# Altium footprint library WE-SHC.PcbLib: 139 footprints (part 4 of 10)
Each footprint in its own frame and in the unit in brackets; x right, y up, seen from the top. Pads: shape width x height; smd on the part's side, far side on the other; paste and mask are expansions set on the pad; w line width, h text height; cw(c..) or ccw(c..) is an arc to the next point about the centre after c.
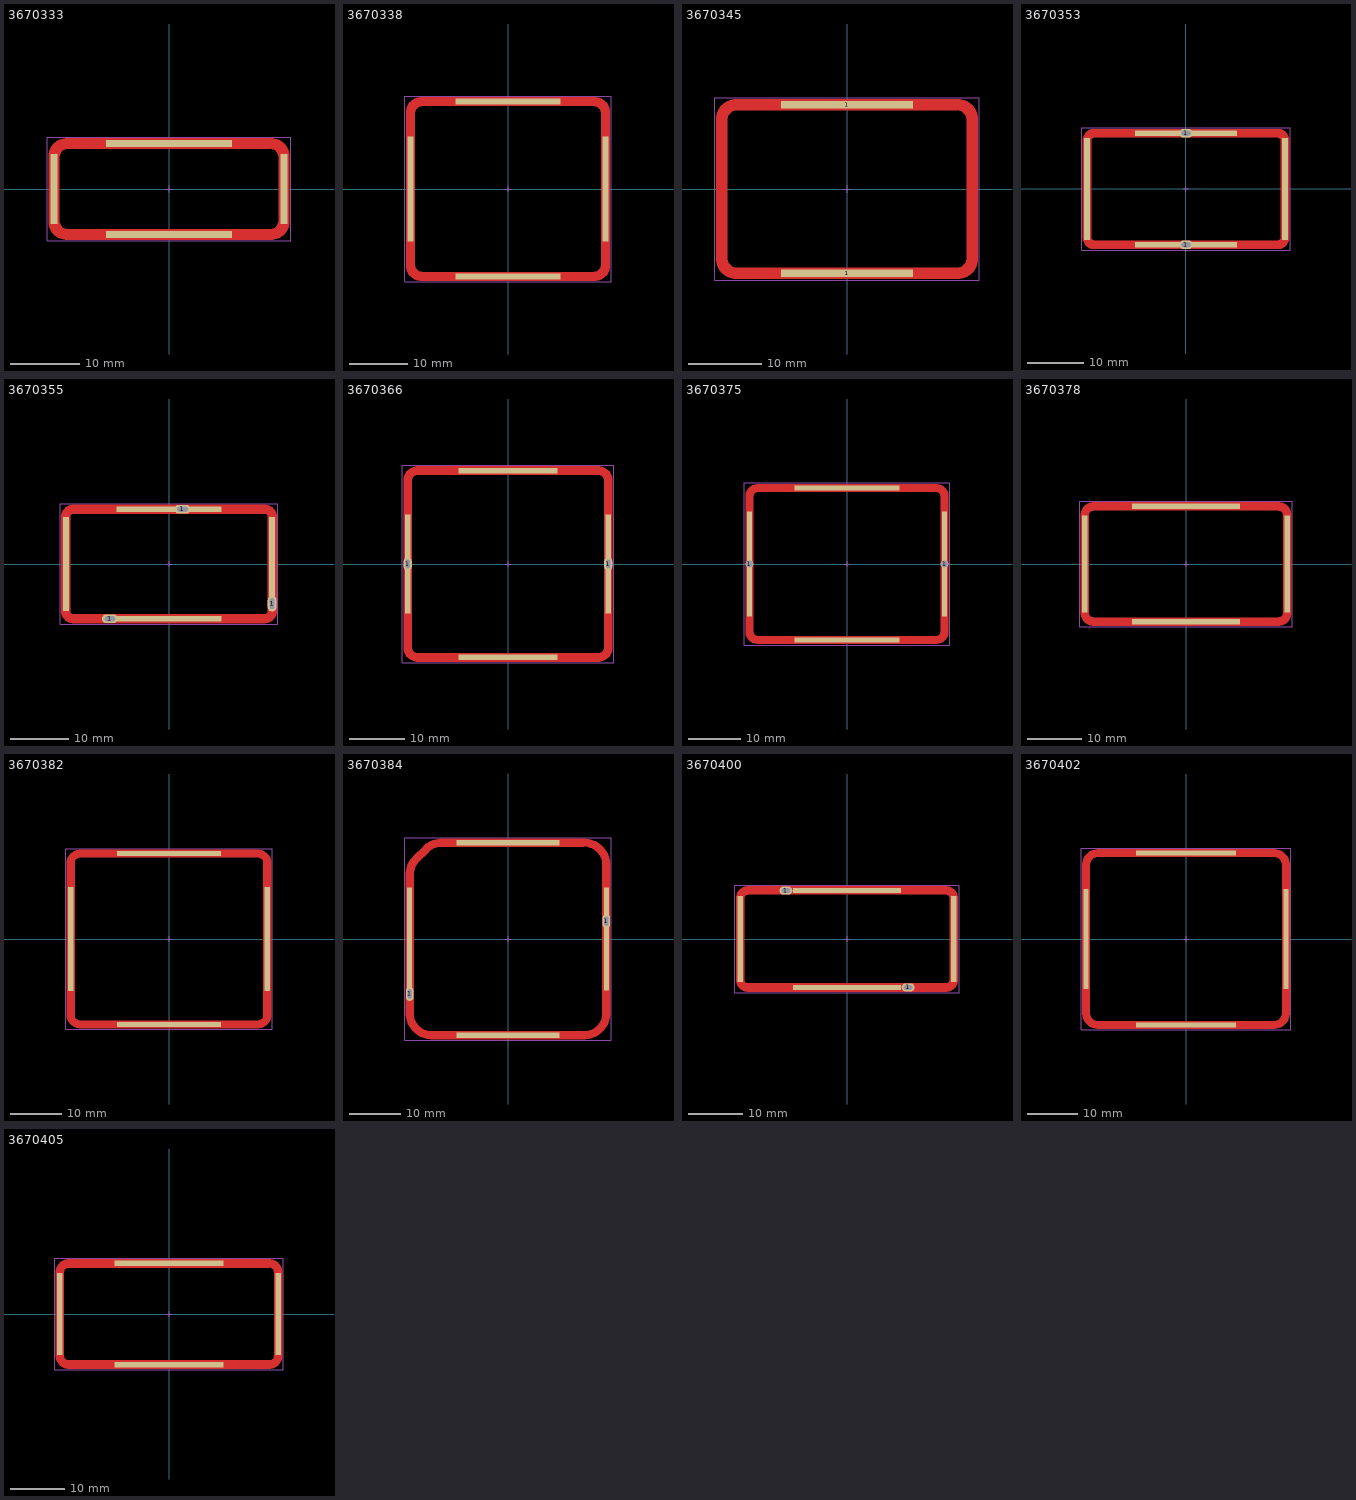
[diagram p3: the footprints below, top view; thin cyan lines are the x and y axes]

## 3670333 [mm] "Shielding Cabinet, SMT Frame Seamless, 33.3x13.3x4.4mm"
height 4.4
pads (4):
  rect 1x10 smd paste-2539.97 mask-2222: 1(-16.5,0) 1(16.5,0)
  rect 18x1 smd paste-2539.97 mask-2222: 1(0,-6.5) 1(0,6.5)
Top Layer:
  region: -17.25,-1 -17.25,4.65 -17.25,4.906 -17.15,5.408 -16.954,5.882 -16.67,6.307 -16.307,6.67 -15.882,6.954 -15.408,7.15 -14.906,7.25 -14.65,7.25 14.65,7.25 14.906,7.25 15.408,7.15 15.882,6.954 16.307,6.67 16.67,6.307 16.954,5.882 17.15,5.408 17.25,4.906 17.25,4.65 17.25,-1 15.75,-1 15.75,4.45 15.744,4.577 15.694,4.827 15.596,5.063 15.455,5.275 15.275,5.455 15.063,5.596 14.827,5.694 14.577,5.744 14.45,5.75 -14.45,5.75 -14.577,5.744 -14.827,5.694 -15.063,5.596 -15.275,5.455 -15.455,5.275 -15.596,5.063 -15.694,4.827 -15.744,4.577 -15.75,4.45 -15.75,-1
  region: -17.25,-0.25 -17.25,-4.65 -17.25,-4.906 -17.15,-5.408 -16.954,-5.882 -16.67,-6.307 -16.307,-6.67 -15.882,-6.954 -15.408,-7.15 -14.906,-7.25 -14.65,-7.25 14.65,-7.25 14.906,-7.25 15.408,-7.15 15.882,-6.954 16.307,-6.67 16.67,-6.307 16.954,-5.882 17.15,-5.408 17.25,-4.906 17.25,-4.65 17.25,-0.25 15.75,-0.25 15.75,-4.45 15.744,-4.577 15.694,-4.827 15.596,-5.063 15.455,-5.275 15.275,-5.455 15.063,-5.596 14.827,-5.694 14.577,-5.744 14.45,-5.75 -14.45,-5.75 -14.577,-5.744 -14.827,-5.694 -15.063,-5.596 -15.275,-5.455 -15.455,-5.275 -15.596,-5.063 -15.694,-4.827 -15.744,-4.577 -15.75,-4.45 -15.75,-0.25
Top Paste:
  region: -17.25,-0.25 -17.25,-4.65 -17.25,-4.906 -17.15,-5.408 -16.954,-5.882 -16.67,-6.307 -16.307,-6.67 -15.882,-6.954 -15.408,-7.15 -14.906,-7.25 -14.65,-7.25 14.65,-7.25 14.906,-7.25 15.408,-7.15 15.882,-6.954 16.307,-6.67 16.67,-6.307 16.954,-5.882 17.15,-5.408 17.25,-4.906 17.25,-4.65 17.25,-0.25 15.75,-0.25 15.75,-4.45 15.744,-4.577 15.694,-4.827 15.596,-5.063 15.455,-5.275 15.275,-5.455 15.063,-5.596 14.827,-5.694 14.577,-5.744 14.45,-5.75 -14.45,-5.75 -14.577,-5.744 -14.827,-5.694 -15.063,-5.596 -15.275,-5.455 -15.455,-5.275 -15.596,-5.063 -15.694,-4.827 -15.744,-4.577 -15.75,-4.45 -15.75,-0.25
  region: -17.25,0.25 -17.25,4.65 -17.25,4.906 -17.15,5.408 -16.954,5.882 -16.67,6.307 -16.307,6.67 -15.882,6.954 -15.408,7.15 -14.906,7.25 -14.65,7.25 14.65,7.25 14.906,7.25 15.408,7.15 15.882,6.954 16.307,6.67 16.67,6.307 16.954,5.882 17.15,5.408 17.25,4.906 17.25,4.65 17.25,0.25 15.75,0.25 15.75,4.45 15.744,4.577 15.694,4.827 15.596,5.063 15.455,5.275 15.275,5.455 15.063,5.596 14.827,5.694 14.577,5.744 14.45,5.75 -14.45,5.75 -14.577,5.744 -14.827,5.694 -15.063,5.596 -15.275,5.455 -15.455,5.275 -15.596,5.063 -15.694,4.827 -15.744,4.577 -15.75,4.45 -15.75,0.25
Assembly Notes:
  text "recommended tin paste thickness=0.5mm / customer to define the final stencil gap" at -6.1,-8.9 h0.4
Top Component Outline:
  lines w0.1: -16.65,-4.65 ccw(c-14.65,-4.65) -14.65,-6.65 14.65,-6.65 ccw(c14.65,-4.65) 16.65,-4.65 16.65,4.65 ccw(c14.65,4.65) 14.65,6.65 -14.65,6.65 ccw(c-14.65,4.65) -16.65,4.65 -16.65,-4.65
Top 3D Body:
  lines w0.1: -16.65,-4.65 ccw(c-14.65,-4.65) -14.65,-6.65 14.65,-6.65 ccw(c14.65,-4.65) 16.65,-4.65 16.65,4.65 ccw(c14.65,4.65) 14.65,6.65 -14.65,6.65 ccw(c-14.65,4.65) -16.65,4.65 -16.65,-4.65
Top Courtyard:
  lines w0.05: -17.45,-7.45 17.45,-7.45 17.45,7.45 -17.45,7.45 -17.45,-7.45
Top Component Center:
  lines w0.05: -0.5,0 0.5,0 ; 0,-0.5 0,0.5
Top Designator (Mech19):
  text ".Designator" at -7.498,-0.5 h1.5
3D body "3670333.stp": height 4.4, standoff 0, extent -16.65,-6.65 16.65,6.65

## 3670338 [mm] "Shielding Cabinet, SMT Frame Seamless, 33.8x30.3x3.3mm"
height 3.3
pads (4):
  rect 1x18 smd paste-2539.97 mask-2222: 1(-16.75,0) 1(16.75,0)
  rect 18x1 smd paste-2539.97 mask-2222: 1(0,-15) 1(0,15)
Top Layer:
  region: -17.5,-0.25 -17.5,-13.15 -17.5,-13.406 -17.4,-13.908 -17.204,-14.382 -16.92,-14.807 -16.557,-15.17 -16.132,-15.454 -15.658,-15.65 -15.156,-15.75 -14.9,-15.75 14.9,-15.75 15.156,-15.75 15.658,-15.65 16.132,-15.454 16.557,-15.17 16.92,-14.807 17.204,-14.382 17.4,-13.908 17.5,-13.406 17.5,-13.15 17.5,-0.25 16,-0.25 16,-12.95 15.994,-13.077 15.944,-13.327 15.846,-13.563 15.705,-13.775 15.525,-13.955 15.313,-14.096 15.077,-14.194 14.827,-14.244 14.7,-14.25 -14.7,-14.25 -14.827,-14.244 -15.077,-14.194 -15.313,-14.096 -15.525,-13.955 -15.705,-13.775 -15.846,-13.563 -15.944,-13.327 -15.994,-13.077 -16,-12.95 -16,-0.25
  region: -17.5,-1 -17.5,13.15 -17.5,13.406 -17.4,13.908 -17.204,14.382 -16.92,14.807 -16.557,15.17 -16.132,15.454 -15.658,15.65 -15.156,15.75 -14.9,15.75 14.9,15.75 15.156,15.75 15.658,15.65 16.132,15.454 16.557,15.17 16.92,14.807 17.204,14.382 17.4,13.908 17.5,13.406 17.5,13.15 17.5,-1 16,-1 16,12.95 15.994,13.077 15.944,13.327 15.846,13.563 15.705,13.775 15.525,13.955 15.313,14.096 15.077,14.194 14.827,14.244 14.7,14.25 -14.7,14.25 -14.827,14.244 -15.077,14.194 -15.313,14.096 -15.525,13.955 -15.705,13.775 -15.846,13.563 -15.944,13.327 -15.994,13.077 -16,12.95 -16,-1
Top Paste:
  region: -17.5,0.25 -17.5,13.15 -17.5,13.406 -17.4,13.908 -17.204,14.382 -16.92,14.807 -16.557,15.17 -16.132,15.454 -15.658,15.65 -15.156,15.75 -14.9,15.75 14.9,15.75 15.156,15.75 15.658,15.65 16.132,15.454 16.557,15.17 16.92,14.807 17.204,14.382 17.4,13.908 17.5,13.406 17.5,13.15 17.5,0.25 16,0.25 16,12.95 15.994,13.077 15.944,13.327 15.846,13.563 15.705,13.775 15.525,13.955 15.313,14.096 15.077,14.194 14.827,14.244 14.7,14.25 -14.7,14.25 -14.827,14.244 -15.077,14.194 -15.313,14.096 -15.525,13.955 -15.705,13.775 -15.846,13.563 -15.944,13.327 -15.994,13.077 -16,12.95 -16,0.25
  region: -17.5,-0.25 -17.5,-13.15 -17.5,-13.406 -17.4,-13.908 -17.204,-14.382 -16.92,-14.807 -16.557,-15.17 -16.132,-15.454 -15.658,-15.65 -15.156,-15.75 -14.9,-15.75 14.9,-15.75 15.156,-15.75 15.658,-15.65 16.132,-15.454 16.557,-15.17 16.92,-14.807 17.204,-14.382 17.4,-13.908 17.5,-13.406 17.5,-13.15 17.5,-0.25 16,-0.25 16,-12.95 15.994,-13.077 15.944,-13.327 15.846,-13.563 15.705,-13.775 15.525,-13.955 15.313,-14.096 15.077,-14.194 14.827,-14.244 14.7,-14.25 -14.7,-14.25 -14.827,-14.244 -15.077,-14.194 -15.313,-14.096 -15.525,-13.955 -15.705,-13.775 -15.846,-13.563 -15.944,-13.327 -15.994,-13.077 -16,-12.95 -16,-0.25
Assembly Notes:
  text "recommended tin paste thickness=0.5mm / customer to define the final stencil gap" at -5.55,-17.45 h0.4
Top Component Outline:
  lines w0.1: -16.9,-13.15 ccw(c-14.9,-13.15) -14.9,-15.15 14.9,-15.15 ccw(c14.9,-13.15) 16.9,-13.15 16.9,13.15 ccw(c14.9,13.15) 14.9,15.15 -14.9,15.15 ccw(c-14.9,13.15) -16.9,13.15 -16.9,-13.15
Top 3D Body:
  lines w0.1: -16.9,-13.15 ccw(c-14.9,-13.15) -14.9,-15.15 14.9,-15.15 ccw(c14.9,-13.15) 16.9,-13.15 16.9,13.15 ccw(c14.9,13.15) 14.9,15.15 -14.9,15.15 ccw(c-14.9,13.15) -16.9,13.15 -16.9,-13.15
Top Courtyard:
  lines w0.05: -17.7,-15.95 17.7,-15.95 17.7,15.95 -17.7,15.95 -17.7,-15.95
Top Component Center:
  lines w0.05: -0.5,0 0.5,0 ; 0,-0.5 0,0.5
Top Designator (Mech19):
  text ".Designator" at -7.498,-0.5 h1.5
3D body "3670338.stp": height 3.3, standoff 0, extent -16.9,-15.15 16.9,15.15

## 3670345 [mm] "Shielding Cabinet, SMT Frame Seamless, 34.5x23.3x3.5mm"
height 3.5
pads (2):
  rect 18x1 smd paste-2539.97 mask-2222: 1(0,-11.5) 1(0,11.5)
Top Layer:
  region: -17.85,-0.25 -17.85,-9.65 -17.85,-9.906 -17.75,-10.408 -17.554,-10.882 -17.27,-11.307 -16.907,-11.67 -16.482,-11.954 -16.008,-12.15 -15.506,-12.25 -15.25,-12.25 15.25,-12.25 15.506,-12.25 16.008,-12.15 16.482,-11.954 16.907,-11.67 17.27,-11.307 17.554,-10.882 17.75,-10.408 17.85,-9.906 17.85,-9.65 17.85,-0.25 16.35,-0.25 16.35,-9.45 16.344,-9.577 16.294,-9.827 16.196,-10.063 16.055,-10.275 15.875,-10.455 15.663,-10.596 15.427,-10.694 15.177,-10.744 15.05,-10.75 -15.05,-10.75 -15.177,-10.744 -15.427,-10.694 -15.663,-10.596 -15.875,-10.455 -16.055,-10.275 -16.196,-10.063 -16.294,-9.827 -16.344,-9.577 -16.35,-9.45 -16.35,-0.25
  region: -17.85,-1 -17.85,9.65 -17.85,9.906 -17.75,10.408 -17.554,10.882 -17.27,11.307 -16.907,11.67 -16.482,11.954 -16.008,12.15 -15.506,12.25 -15.25,12.25 15.25,12.25 15.506,12.25 16.008,12.15 16.482,11.954 16.907,11.67 17.27,11.307 17.554,10.882 17.75,10.408 17.85,9.906 17.85,9.65 17.85,-1 16.35,-1 16.35,9.45 16.344,9.577 16.294,9.827 16.196,10.063 16.055,10.275 15.875,10.455 15.663,10.596 15.427,10.694 15.177,10.744 15.05,10.75 -15.05,10.75 -15.177,10.744 -15.427,10.694 -15.663,10.596 -15.875,10.455 -16.055,10.275 -16.196,10.063 -16.294,9.827 -16.344,9.577 -16.35,9.45 -16.35,-1
Top Paste:
  region: -17.85,0.25 -17.85,9.65 -17.85,9.906 -17.75,10.408 -17.554,10.882 -17.27,11.307 -16.907,11.67 -16.482,11.954 -16.008,12.15 -15.506,12.25 -15.25,12.25 15.25,12.25 15.506,12.25 16.008,12.15 16.482,11.954 16.907,11.67 17.27,11.307 17.554,10.882 17.75,10.408 17.85,9.906 17.85,9.65 17.85,0.25 16.35,0.25 16.35,9.45 16.344,9.577 16.294,9.827 16.196,10.063 16.055,10.275 15.875,10.455 15.663,10.596 15.427,10.694 15.177,10.744 15.05,10.75 -15.05,10.75 -15.177,10.744 -15.427,10.694 -15.663,10.596 -15.875,10.455 -16.055,10.275 -16.196,10.063 -16.294,9.827 -16.344,9.577 -16.35,9.45 -16.35,0.25
  region: -17.85,-0.25 -17.85,-9.65 -17.85,-9.906 -17.75,-10.408 -17.554,-10.882 -17.27,-11.307 -16.907,-11.67 -16.482,-11.954 -16.008,-12.15 -15.506,-12.25 -15.25,-12.25 15.25,-12.25 15.506,-12.25 16.008,-12.15 16.482,-11.954 16.907,-11.67 17.27,-11.307 17.554,-10.882 17.75,-10.408 17.85,-9.906 17.85,-9.65 17.85,-0.25 16.35,-0.25 16.35,-9.45 16.344,-9.577 16.294,-9.827 16.196,-10.063 16.055,-10.275 15.875,-10.455 15.663,-10.596 15.427,-10.694 15.177,-10.744 15.05,-10.75 -15.05,-10.75 -15.177,-10.744 -15.427,-10.694 -15.663,-10.596 -15.875,-10.455 -16.055,-10.275 -16.196,-10.063 -16.294,-9.827 -16.344,-9.577 -16.35,-9.45 -16.35,-0.25
Assembly Notes:
  text "recommended tin paste thickness=0.5mm / customer to define the final stencil gap" at -5.5,-13.85 h0.4
Top Component Outline:
  lines w0.1: -17.25,-9.65 ccw(c-15.25,-9.65) -15.25,-11.65 15.25,-11.65 ccw(c15.25,-9.65) 17.25,-9.65 17.25,9.65 ccw(c15.25,9.65) 15.25,11.65 -15.25,11.65 ccw(c-15.25,9.65) -17.25,9.65 -17.25,-9.65
Top 3D Body:
  lines w0.1: -17.25,-9.65 ccw(c-15.25,-9.65) -15.25,-11.65 15.25,-11.65 ccw(c15.25,-9.65) 17.25,-9.65 17.25,9.65 ccw(c15.25,9.65) 15.25,11.65 -15.25,11.65 ccw(c-15.25,9.65) -17.25,9.65 -17.25,-9.65
Top Courtyard:
  lines w0.05: -18.05,-12.45 18.05,-12.45 18.05,12.45 -18.05,12.45 -18.05,-12.45
Top Component Center:
  lines w0.05: -0.5,0 0.5,0 ; 0,-0.5 0,0.5
Top Designator (Mech19):
  text ".Designator" at -7.498,-0.5 h1.5
3D body "3670345.stp": height 3.5, standoff 0, extent -17.25,-11.65 17.25,11.65

## 3670353 [mm] "Shielding Cabinet, SMT Frame Seamless, 35.3x20x6.4mm"
height 6.4
pads (6):
  rect 1x18 smd paste-2539.97 mask-2222: 1(-17.5,0) 1(17.5,0)
  rect 18x1 smd paste-2539.97 mask-2222: 1(0,-9.85) 1(0,9.85)
  oval 2.4x1.5 hole 0.8 slot 1.6 at 0 deg: 1(0,-9.85) 1(0,9.85)
Top Layer:
  region: -18.25,-0.25 -18.25,-8.55 -18.25,-8.752 -18.171,-9.148 -18.017,-9.521 -17.792,-9.857 -17.507,-10.142 -17.171,-10.367 -16.798,-10.521 -16.402,-10.6 -16.2,-10.6 16.2,-10.6 16.402,-10.6 16.798,-10.521 17.171,-10.367 17.507,-10.142 17.792,-9.857 18.017,-9.521 18.171,-9.148 18.25,-8.752 18.25,-8.55 18.25,-0.25 16.75,-0.25 16.75,-8.55 16.739,-8.657 16.657,-8.856 16.506,-9.007 16.307,-9.089 16.2,-9.1 -16.2,-9.1 -16.307,-9.089 -16.506,-9.007 -16.657,-8.856 -16.739,-8.657 -16.75,-8.55 -16.75,-0.25
  region: -18.25,-1 -18.25,8.55 -18.25,8.752 -18.171,9.148 -18.017,9.521 -17.792,9.857 -17.507,10.142 -17.171,10.367 -16.798,10.521 -16.402,10.6 -16.2,10.6 16.2,10.6 16.402,10.6 16.798,10.521 17.171,10.367 17.507,10.142 17.792,9.857 18.017,9.521 18.171,9.148 18.25,8.752 18.25,8.55 18.25,-1 16.75,-1 16.75,8.55 16.739,8.657 16.657,8.856 16.506,9.007 16.307,9.089 16.2,9.1 -16.2,9.1 -16.307,9.089 -16.506,9.007 -16.657,8.856 -16.739,8.657 -16.75,8.55 -16.75,-1
Top Paste:
  region: -18.25,0.25 -18.25,8.55 -18.25,8.752 -18.171,9.148 -18.017,9.521 -17.792,9.857 -17.507,10.142 -17.171,10.367 -16.798,10.521 -16.402,10.6 -16.2,10.6 16.2,10.6 16.402,10.6 16.798,10.521 17.171,10.367 17.507,10.142 17.792,9.857 18.017,9.521 18.171,9.148 18.25,8.752 18.25,8.55 18.25,0.25 16.75,0.25 16.75,8.55 16.739,8.657 16.657,8.856 16.506,9.007 16.307,9.089 16.2,9.1 -16.2,9.1 -16.307,9.089 -16.506,9.007 -16.657,8.856 -16.739,8.657 -16.75,8.55 -16.75,0.25
  region: -18.25,-0.25 -18.25,-8.55 -18.25,-8.752 -18.171,-9.148 -18.017,-9.521 -17.792,-9.857 -17.507,-10.142 -17.171,-10.367 -16.798,-10.521 -16.402,-10.6 -16.2,-10.6 16.2,-10.6 16.402,-10.6 16.798,-10.521 17.171,-10.367 17.507,-10.142 17.792,-9.857 18.017,-9.521 18.171,-9.148 18.25,-8.752 18.25,-8.55 18.25,-0.25 16.75,-0.25 16.75,-8.55 16.739,-8.657 16.657,-8.856 16.506,-9.007 16.307,-9.089 16.2,-9.1 -16.2,-9.1 -16.307,-9.089 -16.506,-9.007 -16.657,-8.856 -16.739,-8.657 -16.75,-8.55 -16.75,-0.25
Assembly Notes:
  text "recommended tin paste thickness=0.5mm / customer to define the final stencil gap" at -5.4,-12.25 h0.4
Top Component Outline:
  lines w0.1: -17.65,-8.5 ccw(c-16.15,-8.5) -16.15,-10 16.15,-10 ccw(c16.15,-8.5) 17.65,-8.5 17.65,8.5 ccw(c16.15,8.5) 16.15,10 -16.15,10 ccw(c-16.15,8.5) -17.65,8.5 -17.65,-8.5
Top 3D Body:
  lines w0.1: -17.65,-8.5 ccw(c-16.15,-8.5) -16.15,-10 16.15,-10 ccw(c16.15,-8.5) 17.65,-8.5 17.65,8.5 ccw(c16.15,8.5) 16.15,10 -16.15,10 ccw(c-16.15,8.5) -17.65,8.5 -17.65,-8.5
Top Courtyard:
  lines w0.05: -18.45,-10.8 18.45,-10.8 18.45,10.8 -18.45,10.8 -18.45,-10.8
Top Component Center:
  lines w0.05: -0.5,0 0.5,0 ; 0,-0.5 0,0.5
Top Designator (Mech19):
  text ".Designator" at -7.498,-0.5 h1.5
3D body "3670353.stp": height 6.4, standoff -0.6, extent -17.65,-10 17.65,10

## 3670355 [mm] "Shielding Cabinet, SMT Frame Seamless, 35.5x19x5.5mm"
height 5.5
pads (7):
  rect 1x16 smd paste-2539.97 mask-2222: 1(-17.6,0) 1(17.6,0)
  oval 2.7x1.5 hole 0.8 slot 1.8 at 0 deg: 1(-10.1,-9.35) 1(2.3,9.35)
  rect 18x1 smd paste-2539.97 mask-2222: 1(0,-9.35) 1(0,9.35)
  oval 1.5x2.7 hole 0.8 slot 1.8 at 90 deg: 1(17.6,-6.75)
Top Layer:
  region: -18.35,-1 -18.35,8.1 -18.35,8.297 -18.273,8.683 -18.122,9.047 -17.903,9.375 -17.625,9.654 -17.297,9.872 -16.933,10.023 -16.547,10.1 -16.35,10.1 16.35,10.1 16.547,10.1 16.933,10.023 17.297,9.872 17.625,9.654 17.903,9.375 18.122,9.047 18.273,8.683 18.35,8.297 18.35,8.1 18.35,-1 16.85,-1 16.85,8.1 16.84,8.198 16.766,8.378 16.628,8.516 16.448,8.59 16.35,8.6 -16.35,8.6 -16.448,8.59 -16.628,8.516 -16.766,8.378 -16.84,8.198 -16.85,8.1 -16.85,-1
  region: -18.35,-0.25 -18.35,-8.1 -18.35,-8.297 -18.273,-8.683 -18.122,-9.047 -17.903,-9.375 -17.625,-9.654 -17.297,-9.872 -16.933,-10.023 -16.547,-10.1 -16.35,-10.1 16.35,-10.1 16.547,-10.1 16.933,-10.023 17.297,-9.872 17.625,-9.654 17.903,-9.375 18.122,-9.047 18.273,-8.683 18.35,-8.297 18.35,-8.1 18.35,-0.25 16.85,-0.25 16.85,-8.1 16.84,-8.198 16.766,-8.378 16.628,-8.516 16.448,-8.59 16.35,-8.6 -16.35,-8.6 -16.448,-8.59 -16.628,-8.516 -16.766,-8.378 -16.84,-8.198 -16.85,-8.1 -16.85,-0.25
Top Paste:
  region: -18.35,-0.25 -18.35,-8.1 -18.35,-8.297 -18.273,-8.683 -18.122,-9.047 -17.903,-9.375 -17.625,-9.654 -17.297,-9.872 -16.933,-10.023 -16.547,-10.1 -16.35,-10.1 16.35,-10.1 16.547,-10.1 16.933,-10.023 17.297,-9.872 17.625,-9.654 17.903,-9.375 18.122,-9.047 18.273,-8.683 18.35,-8.297 18.35,-8.1 18.35,-0.25 16.85,-0.25 16.85,-8.1 16.84,-8.198 16.766,-8.378 16.628,-8.516 16.448,-8.59 16.35,-8.6 -16.35,-8.6 -16.448,-8.59 -16.628,-8.516 -16.766,-8.378 -16.84,-8.198 -16.85,-8.1 -16.85,-0.25
  region: -18.35,0.25 -18.35,8.1 -18.35,8.297 -18.273,8.683 -18.122,9.047 -17.903,9.375 -17.625,9.654 -17.297,9.872 -16.933,10.023 -16.547,10.1 -16.35,10.1 16.35,10.1 16.547,10.1 16.933,10.023 17.297,9.872 17.625,9.654 17.903,9.375 18.122,9.047 18.273,8.683 18.35,8.297 18.35,8.1 18.35,0.25 16.85,0.25 16.85,8.1 16.84,8.198 16.766,8.378 16.628,8.516 16.448,8.59 16.35,8.6 -16.35,8.6 -16.448,8.59 -16.628,8.516 -16.766,8.378 -16.84,8.198 -16.85,8.1 -16.85,0.25
Assembly Notes:
  text "recommended tin paste thickness=0.5mm / customer to define the final stencil gap" at -5.6,-11.65 h0.4
Top Component Outline:
  lines w0.1: -17.75,-8.15 ccw(c-16.4,-8.15) -16.4,-9.5 16.4,-9.5 ccw(c16.4,-8.15) 17.75,-8.15 17.75,8.15 ccw(c16.4,8.15) 16.4,9.5 -16.4,9.5 ccw(c-16.4,8.15) -17.75,8.15 -17.75,-8.15
Top 3D Body:
  lines w0.1: -17.75,-8.15 ccw(c-16.4,-8.15) -16.4,-9.5 16.4,-9.5 ccw(c16.4,-8.15) 17.75,-8.15 17.75,8.15 ccw(c16.4,8.15) 16.4,9.5 -16.4,9.5 ccw(c-16.4,8.15) -17.75,8.15 -17.75,-8.15
Top Courtyard:
  lines w0.05: -18.55,-10.3 18.55,-10.3 18.55,10.3 -18.55,10.3 -18.55,-10.3
Top Component Center:
  lines w0.05: -0.5,0 0.5,0 ; 0,-0.5 0,0.5
Top Designator (Mech19):
  text ".Designator" at -7.498,-0.5 h1.5
3D body "3670355.stp": height 5.5, standoff -1, extent -17.75,-9.5 17.75,9.5

## 3670366 [mm] "Shielding Cabinet, SMT Frame Seamless, 36.6x34.1x3.3mm"
height 3.3
pads (6):
  rect 1x18 smd paste-2539.97 mask-2222: 1(-18.15,0) 1(18.15,0)
  oval 1.5x2.4 hole 0.8 slot 1.6 at 90 deg: 1(-18.15,0) 1(18.15,0)
  rect 18x1 smd paste-2539.97 mask-2222: 1(0,-16.9) 1(0,16.9)
Top Layer:
  region: 18.9,-15.15 18.9,15.15 18.9,15.396 18.804,15.879 18.615,16.334 18.342,16.744 17.994,17.092 17.584,17.365 17.129,17.554 16.646,17.65 16.4,17.65 0.25,17.65 0.25,16.15 16.4,16.15 16.498,16.145 16.69,16.107 16.871,16.032 17.034,15.923 17.173,15.784 17.282,15.621 17.357,15.44 17.395,15.248 17.4,15.15 17.4,-15.15 17.395,-15.248 17.357,-15.44 17.282,-15.621 17.173,-15.784 17.034,-15.923 16.871,-16.032 16.69,-16.107 16.498,-16.145 16.4,-16.15 0.25,-16.15 0.25,-17.65 16.4,-17.65 16.646,-17.65 17.129,-17.554 17.584,-17.365 17.994,-17.092 18.342,-16.744 18.615,-16.334 18.804,-15.879 18.9,-15.396
  region: -18.9,-15.15 -18.9,15.15 -18.9,15.396 -18.804,15.879 -18.615,16.334 -18.342,16.744 -17.994,17.092 -17.584,17.365 -17.129,17.554 -16.646,17.65 -16.4,17.65 1,17.65 1,16.15 -16.4,16.15 -16.498,16.145 -16.69,16.107 -16.871,16.032 -17.034,15.923 -17.173,15.784 -17.282,15.621 -17.357,15.44 -17.395,15.248 -17.4,15.15 -17.4,-15.15 -17.395,-15.248 -17.357,-15.44 -17.282,-15.621 -17.173,-15.784 -17.034,-15.923 -16.871,-16.032 -16.69,-16.107 -16.498,-16.145 -16.4,-16.15 1,-16.15 1,-17.65 -16.4,-17.65 -16.646,-17.65 -17.129,-17.554 -17.584,-17.365 -17.994,-17.092 -18.342,-16.744 -18.615,-16.334 -18.804,-15.879 -18.9,-15.396
Top Paste:
  region: -18.9,-15.15 -18.9,15.15 -18.9,15.396 -18.804,15.879 -18.615,16.334 -18.342,16.744 -17.994,17.092 -17.584,17.365 -17.129,17.554 -16.646,17.65 -16.4,17.65 -0.25,17.65 -0.25,16.15 -16.4,16.15 -16.498,16.145 -16.69,16.107 -16.871,16.032 -17.034,15.923 -17.173,15.784 -17.282,15.621 -17.357,15.44 -17.395,15.248 -17.4,15.15 -17.4,-15.15 -17.395,-15.248 -17.357,-15.44 -17.282,-15.621 -17.173,-15.784 -17.034,-15.923 -16.871,-16.032 -16.69,-16.107 -16.498,-16.145 -16.4,-16.15 -0.25,-16.15 -0.25,-17.65 -16.4,-17.65 -16.646,-17.65 -17.129,-17.554 -17.584,-17.365 -17.994,-17.092 -18.342,-16.744 -18.615,-16.334 -18.804,-15.879 -18.9,-15.396
  region: 18.9,-15.15 18.9,15.15 18.9,15.396 18.804,15.879 18.615,16.334 18.342,16.744 17.994,17.092 17.584,17.365 17.129,17.554 16.646,17.65 16.4,17.65 0.25,17.65 0.25,16.15 16.4,16.15 16.498,16.145 16.69,16.107 16.871,16.032 17.034,15.923 17.173,15.784 17.282,15.621 17.357,15.44 17.395,15.248 17.4,15.15 17.4,-15.15 17.395,-15.248 17.357,-15.44 17.282,-15.621 17.173,-15.784 17.034,-15.923 16.871,-16.032 16.69,-16.107 16.498,-16.145 16.4,-16.15 0.25,-16.15 0.25,-17.65 16.4,-17.65 16.646,-17.65 17.129,-17.554 17.584,-17.365 17.994,-17.092 18.342,-16.744 18.615,-16.334 18.804,-15.879 18.9,-15.396
Assembly Notes:
  text "recommended tin paste thickness=0.5mm / customer to define the final stencil gap" at -6.1,-19.3 h0.4
Top Component Outline:
  lines w0.1: -18.3,-15.05 ccw(c-16.3,-15.05) -16.3,-17.05 16.3,-17.05 ccw(c16.3,-15.05) 18.3,-15.05 18.3,15.05 ccw(c16.3,15.05) 16.3,17.05 -16.3,17.05 ccw(c-16.3,15.05) -18.3,15.05 -18.3,-15.05
Top 3D Body:
  lines w0.1: -18.3,-15.05 ccw(c-16.3,-15.05) -16.3,-17.05 16.3,-17.05 ccw(c16.3,-15.05) 18.3,-15.05 18.3,15.05 ccw(c16.3,15.05) 16.3,17.05 -16.3,17.05 ccw(c-16.3,15.05) -18.3,15.05 -18.3,-15.05
Top Courtyard:
  lines w0.05: -19.1,-17.85 -19.1,17.85 19.1,17.85 19.1,-17.85 -19.1,-17.85
Top Component Center:
  lines w0.05: -0.5,0 0.5,0 ; 0,-0.5 0,0.5
Top Designator (Mech19):
  text ".Designator" at -7.498,-0.5 h1.5
3D body "3670366.stp": height 3.3, standoff -0.8, extent -18.3,-17.05 18.3,17.05

## 3670375 [mm] "Shielding Cabinet, SMT Frame Seamless, 37.5x29.3x6.5mm"
height 6.5
pads (6):
  rect 1x20 smd paste-2539.97 mask-2222: 1(-18.6,0) 1(18.6,0)
  round 1.5 hole 1.3: 1(-18.6,0) 1(18.6,0)
  rect 20x1 smd paste-2539.97 mask-2222: 1(0,-14.5) 1(0,14.5)
Top Layer:
  region: 19.35,-12.85 19.35,12.85 19.35,13.086 19.258,13.55 19.077,13.987 18.814,14.38 18.48,14.714 18.087,14.977 17.65,15.158 17.186,15.25 16.95,15.25 0.25,15.25 0.25,13.75 16.95,13.75 17.038,13.746 17.211,13.711 17.374,13.644 17.521,13.546 17.646,13.421 17.744,13.274 17.811,13.111 17.846,12.938 17.85,12.85 17.85,-12.85 17.846,-12.938 17.811,-13.111 17.744,-13.274 17.646,-13.421 17.521,-13.546 17.374,-13.644 17.211,-13.711 17.038,-13.746 16.95,-13.75 0.25,-13.75 0.25,-15.25 16.95,-15.25 17.186,-15.25 17.65,-15.158 18.087,-14.977 18.48,-14.714 18.814,-14.38 19.077,-13.987 19.258,-13.55 19.35,-13.086
  region: -19.35,-12.85 -19.35,12.85 -19.35,13.086 -19.258,13.55 -19.077,13.987 -18.814,14.38 -18.48,14.714 -18.087,14.977 -17.65,15.158 -17.186,15.25 -16.95,15.25 1,15.25 1,13.75 -16.95,13.75 -17.038,13.746 -17.211,13.711 -17.374,13.644 -17.521,13.546 -17.646,13.421 -17.744,13.274 -17.811,13.111 -17.846,12.938 -17.85,12.85 -17.85,-12.85 -17.846,-12.938 -17.811,-13.111 -17.744,-13.274 -17.646,-13.421 -17.521,-13.546 -17.374,-13.644 -17.211,-13.711 -17.038,-13.746 -16.95,-13.75 1,-13.75 1,-15.25 -16.95,-15.25 -17.186,-15.25 -17.65,-15.158 -18.087,-14.977 -18.48,-14.714 -18.814,-14.38 -19.077,-13.987 -19.258,-13.55 -19.35,-13.086
Top Paste:
  region: -19.35,-12.85 -19.35,12.85 -19.35,13.086 -19.258,13.55 -19.077,13.987 -18.814,14.38 -18.48,14.714 -18.087,14.977 -17.65,15.158 -17.186,15.25 -16.95,15.25 -0.25,15.25 -0.25,13.75 -16.95,13.75 -17.038,13.746 -17.211,13.711 -17.374,13.644 -17.521,13.546 -17.646,13.421 -17.744,13.274 -17.811,13.111 -17.846,12.938 -17.85,12.85 -17.85,-12.85 -17.846,-12.938 -17.811,-13.111 -17.744,-13.274 -17.646,-13.421 -17.521,-13.546 -17.374,-13.644 -17.211,-13.711 -17.038,-13.746 -16.95,-13.75 -0.25,-13.75 -0.25,-15.25 -16.95,-15.25 -17.186,-15.25 -17.65,-15.158 -18.087,-14.977 -18.48,-14.714 -18.814,-14.38 -19.077,-13.987 -19.258,-13.55 -19.35,-13.086
  region: 19.35,-12.85 19.35,12.85 19.35,13.086 19.258,13.55 19.077,13.987 18.814,14.38 18.48,14.714 18.087,14.977 17.65,15.158 17.186,15.25 16.95,15.25 0.25,15.25 0.25,13.75 16.95,13.75 17.038,13.746 17.211,13.711 17.374,13.644 17.521,13.546 17.646,13.421 17.744,13.274 17.811,13.111 17.846,12.938 17.85,12.85 17.85,-12.85 17.846,-12.938 17.811,-13.111 17.744,-13.274 17.646,-13.421 17.521,-13.546 17.374,-13.644 17.211,-13.711 17.038,-13.746 16.95,-13.75 0.25,-13.75 0.25,-15.25 16.95,-15.25 17.186,-15.25 17.65,-15.158 18.087,-14.977 18.48,-14.714 18.814,-14.38 19.077,-13.987 19.258,-13.55 19.35,-13.086
Assembly Notes:
  text "recommended tin paste thickness=0.5mm / customer to define the final stencil gap" at -5.95,-17 h0.4
Top Component Outline:
  lines w0.1: -18.75,-12.9 ccw(c-17,-12.9) -17,-14.65 17,-14.65 ccw(c17,-12.9) 18.75,-12.9 18.75,12.9 ccw(c17,12.9) 17,14.65 -17,14.65 ccw(c-17,12.9) -18.75,12.9 -18.75,-12.9
Top 3D Body:
  lines w0.1: -18.75,-12.9 ccw(c-17,-12.9) -17,-14.65 17,-14.65 ccw(c17,-12.9) 18.75,-12.9 18.75,12.9 ccw(c17,12.9) 17,14.65 -17,14.65 ccw(c-17,12.9) -18.75,12.9 -18.75,-12.9
Top Courtyard:
  lines w0.05: -19.55,-15.45 -19.55,15.45 19.55,15.45 19.55,-15.45 -19.55,-15.45
Top Component Center:
  lines w0.05: -0.5,0 0.5,0 ; 0,-0.5 0,0.5
Top Designator (Mech19):
  text ".Designator" at -7.498,-0.5 h1.5
3D body "3670375.stp": height 6.5, standoff -0.6, extent -18.75,-14.65 18.75,14.65

## 3670378 [mm] "Shielding Cabinet, SMT Frame Seamless, 37.8x21.6x3mm"
height 3
pads (4):
  rect 1x18 smd paste-2539.97 mask-2222: 1(-18.75,0) 1(18.75,0)
  rect 20x1 smd paste-2539.97 mask-2222: 1(0,-10.65) 1(0,10.65)
Top Layer:
  region: -19.5,-0.25 -19.5,-9 -19.5,-9.236 -19.408,-9.7 -19.227,-10.137 -18.964,-10.53 -18.63,-10.864 -18.237,-11.127 -17.8,-11.308 -17.336,-11.4 -17.1,-11.4 17.1,-11.4 17.336,-11.4 17.8,-11.308 18.237,-11.127 18.63,-10.864 18.964,-10.53 19.227,-10.137 19.408,-9.7 19.5,-9.236 19.5,-9 19.5,-0.25 18,-0.25 18,-9 17.996,-9.088 17.961,-9.261 17.894,-9.424 17.796,-9.571 17.671,-9.696 17.524,-9.794 17.361,-9.861 17.188,-9.896 17.1,-9.9 -17.1,-9.9 -17.188,-9.896 -17.361,-9.861 -17.524,-9.794 -17.671,-9.696 -17.796,-9.571 -17.894,-9.424 -17.961,-9.261 -17.996,-9.088 -18,-9 -18,-0.25
  region: -19.5,-0.9 -19.5,9 -19.5,9.236 -19.408,9.7 -19.227,10.137 -18.964,10.53 -18.63,10.864 -18.237,11.127 -17.8,11.308 -17.336,11.4 -17.1,11.4 17.1,11.4 17.336,11.4 17.8,11.308 18.237,11.127 18.63,10.864 18.964,10.53 19.227,10.137 19.408,9.7 19.5,9.236 19.5,9 19.5,-0.9 18,-0.9 18,9 17.996,9.088 17.961,9.261 17.894,9.424 17.796,9.571 17.671,9.696 17.524,9.794 17.361,9.861 17.188,9.896 17.1,9.9 -17.1,9.9 -17.188,9.896 -17.361,9.861 -17.524,9.794 -17.671,9.696 -17.796,9.571 -17.894,9.424 -17.961,9.261 -17.996,9.088 -18,9 -18,-0.9
Top Paste:
  region: -19.5,0.25 -19.5,9 -19.5,9.236 -19.408,9.7 -19.227,10.137 -18.964,10.53 -18.63,10.864 -18.237,11.127 -17.8,11.308 -17.336,11.4 -17.1,11.4 17.1,11.4 17.336,11.4 17.8,11.308 18.237,11.127 18.63,10.864 18.964,10.53 19.227,10.137 19.408,9.7 19.5,9.236 19.5,9 19.5,0.25 18,0.25 18,9 17.996,9.088 17.961,9.261 17.894,9.424 17.796,9.571 17.671,9.696 17.524,9.794 17.361,9.861 17.188,9.896 17.1,9.9 -17.1,9.9 -17.188,9.896 -17.361,9.861 -17.524,9.794 -17.671,9.696 -17.796,9.571 -17.894,9.424 -17.961,9.261 -17.996,9.088 -18,9 -18,0.25
  region: -19.5,-0.25 -19.5,-9 -19.5,-9.236 -19.408,-9.7 -19.227,-10.137 -18.964,-10.53 -18.63,-10.864 -18.237,-11.127 -17.8,-11.308 -17.336,-11.4 -17.1,-11.4 17.1,-11.4 17.336,-11.4 17.8,-11.308 18.237,-11.127 18.63,-10.864 18.964,-10.53 19.227,-10.137 19.408,-9.7 19.5,-9.236 19.5,-9 19.5,-0.25 18,-0.25 18,-9 17.996,-9.088 17.961,-9.261 17.894,-9.424 17.796,-9.571 17.671,-9.696 17.524,-9.794 17.361,-9.861 17.188,-9.896 17.1,-9.9 -17.1,-9.9 -17.188,-9.896 -17.361,-9.861 -17.524,-9.794 -17.671,-9.696 -17.796,-9.571 -17.894,-9.424 -17.961,-9.261 -17.996,-9.088 -18,-9 -18,-0.25
Assembly Notes:
  text "recommended tin paste thickness=0.5mm / customer to define the final stencil gap" at -6.15,-13.15 h0.4
Top Component Outline:
  lines w0.1: -18.9,-9.05 ccw(c-17.15,-9.05) -17.15,-10.8 17.15,-10.8 ccw(c17.15,-9.05) 18.9,-9.05 18.9,9.05 ccw(c17.15,9.05) 17.15,10.8 -17.15,10.8 ccw(c-17.15,9.05) -18.9,9.05 -18.9,-9.05
Top 3D Body:
  lines w0.1: -18.9,-9.05 ccw(c-17.15,-9.05) -17.15,-10.8 17.15,-10.8 ccw(c17.15,-9.05) 18.9,-9.05 18.9,9.05 ccw(c17.15,9.05) 17.15,10.8 -17.15,10.8 ccw(c-17.15,9.05) -18.9,9.05 -18.9,-9.05
Top Courtyard:
  lines w0.05: -19.7,-11.6 -19.7,11.6 19.7,11.6 19.7,-11.6 -19.7,-11.6
Top Component Center:
  lines w0.05: -0.5,0 0.5,0 ; 0,-0.5 0,0.5
Top Designator (Mech19):
  text ".Designator" at -7.498,-0.5 h1.5
3D body "3670378.stp": height 3, standoff 0, extent -18.9,-10.8 18.9,10.8

## 3670382 [mm] "Shielding Cabinet, SMT Frame Seamless, 38.2x33.3x5mm"
height 5
pads (4):
  rect 1x20 smd paste-2539.97 mask-2222: 1(-18.95,0) 1(18.95,0)
  rect 20x1 smd paste-2539.97 mask-2222: 1(0,-16.5) 1(0,16.5)
Top Layer:
  region: -19.7,-0.25 -19.7,-14.65 -19.7,-14.906 -19.6,-15.408 -19.404,-15.882 -19.12,-16.307 -18.757,-16.67 -18.332,-16.954 -17.858,-17.15 -17.356,-17.25 -17.1,-17.25 17.1,-17.25 17.356,-17.25 17.858,-17.15 18.332,-16.954 18.757,-16.67 19.12,-16.307 19.404,-15.882 19.6,-15.408 19.7,-14.906 19.7,-14.65 19.7,-0.25 18.2,-0.25 18.2,-14.65 18.195,-14.758 18.153,-14.969 18.07,-15.169 17.95,-15.348 17.798,-15.5 17.619,-15.62 17.419,-15.703 17.208,-15.745 17.1,-15.75 -17.1,-15.75 -17.208,-15.745 -17.419,-15.703 -17.619,-15.62 -17.798,-15.5 -17.95,-15.348 -18.07,-15.169 -18.153,-14.969 -18.195,-14.758 -18.2,-14.65 -18.2,-0.25
  region: -19.7,-1 -19.7,14.65 -19.7,14.906 -19.6,15.408 -19.404,15.882 -19.12,16.307 -18.757,16.67 -18.332,16.954 -17.858,17.15 -17.356,17.25 -17.1,17.25 17.1,17.25 17.356,17.25 17.858,17.15 18.332,16.954 18.757,16.67 19.12,16.307 19.404,15.882 19.6,15.408 19.7,14.906 19.7,14.65 19.7,-1 18.2,-1 18.2,14.65 18.195,14.758 18.153,14.969 18.07,15.169 17.95,15.348 17.798,15.5 17.619,15.62 17.419,15.703 17.208,15.745 17.1,15.75 -17.1,15.75 -17.208,15.745 -17.419,15.703 -17.619,15.62 -17.798,15.5 -17.95,15.348 -18.07,15.169 -18.153,14.969 -18.195,14.758 -18.2,14.65 -18.2,-1
Top Paste:
  region: -19.7,0.25 -19.7,14.65 -19.7,14.906 -19.6,15.408 -19.404,15.882 -19.12,16.307 -18.757,16.67 -18.332,16.954 -17.858,17.15 -17.356,17.25 -17.1,17.25 17.1,17.25 17.356,17.25 17.858,17.15 18.332,16.954 18.757,16.67 19.12,16.307 19.404,15.882 19.6,15.408 19.7,14.906 19.7,14.65 19.7,0.25 18.2,0.25 18.2,14.65 18.195,14.758 18.153,14.969 18.07,15.169 17.95,15.348 17.798,15.5 17.619,15.62 17.419,15.703 17.208,15.745 17.1,15.75 -17.1,15.75 -17.208,15.745 -17.419,15.703 -17.619,15.62 -17.798,15.5 -17.95,15.348 -18.07,15.169 -18.153,14.969 -18.195,14.758 -18.2,14.65 -18.2,0.25
  region: -19.7,-0.25 -19.7,-14.65 -19.7,-14.906 -19.6,-15.408 -19.404,-15.882 -19.12,-16.307 -18.757,-16.67 -18.332,-16.954 -17.858,-17.15 -17.356,-17.25 -17.1,-17.25 17.1,-17.25 17.356,-17.25 17.858,-17.15 18.332,-16.954 18.757,-16.67 19.12,-16.307 19.404,-15.882 19.6,-15.408 19.7,-14.906 19.7,-14.65 19.7,-0.25 18.2,-0.25 18.2,-14.65 18.195,-14.758 18.153,-14.969 18.07,-15.169 17.95,-15.348 17.798,-15.5 17.619,-15.62 17.419,-15.703 17.208,-15.745 17.1,-15.75 -17.1,-15.75 -17.208,-15.745 -17.419,-15.703 -17.619,-15.62 -17.798,-15.5 -17.95,-15.348 -18.07,-15.169 -18.153,-14.969 -18.195,-14.758 -18.2,-14.65 -18.2,-0.25
Assembly Notes:
  text "recommended tin paste thickness=0.5mm / customer to define the final stencil gap" at -6.45,-18.9 h0.4
Top Component Outline:
  lines w0.1: -19.1,-14.65 ccw(c-17.1,-14.65) -17.1,-16.65 17.1,-16.65 ccw(c17.1,-14.65) 19.1,-14.65 19.1,14.65 ccw(c17.1,14.65) 17.1,16.65 -17.1,16.65 ccw(c-17.1,14.65) -19.1,14.65 -19.1,-14.65
Top 3D Body:
  lines w0.1: -19.1,-14.65 ccw(c-17.1,-14.65) -17.1,-16.65 17.1,-16.65 ccw(c17.1,-14.65) 19.1,-14.65 19.1,14.65 ccw(c17.1,14.65) 17.1,16.65 -17.1,16.65 ccw(c-17.1,14.65) -19.1,14.65 -19.1,-14.65
Top Courtyard:
  lines w0.05: -19.9,-17.45 -19.9,17.45 19.9,17.45 19.9,-17.45 -19.9,-17.45
Top Component Center:
  lines w0.05: -0.5,0 0.5,0 ; 0,-0.5 0,0.5
Top Designator (Mech19):
  text ".Designator" at -7.498,-0.5 h1.5
3D body "3670382.stp": height 5, standoff 0, extent -19.1,-16.65 19.1,16.65

## 3670384 [mm] "Shielding Cabinet, SMT Frame Seamless, 38.4x37.6x11mm"
height 11
pads (6):
  oval 1.5x2.7 hole 0.8 slot 1.8 at 90 deg: 1(-19.05,-10.65) 1(19.05,3.45)
  rect 1x20 smd paste-2539.97 mask-2222: 1(-19.05,0) 1(19.05,0)
  rect 20x1 smd paste-2539.97 mask-2222: 1(0,-18.65) 1(0,18.65)
Top Layer:
  region: -14.7,-19.4 -15.034,-19.4 -15.697,-19.313 -16.343,-19.14 -16.961,-18.884 -17.539,-18.55 -18.07,-18.143 -18.543,-17.67 -18.95,-17.139 -19.284,-16.561 -19.54,-15.943 -19.713,-15.297 -19.8,-14.634 -19.8,-14.3 -19.8,-0.25 -18.3,-0.25 -18.3,-14.3 -18.292,-14.535 -18.231,-15.002 -18.109,-15.457 -17.929,-15.892 -17.693,-16.3 -17.407,-16.674 -17.074,-17.007 -16.7,-17.293 -16.292,-17.529 -15.857,-17.709 -15.402,-17.831 -14.935,-17.892 -14.7,-17.9 14.7,-17.9 14.935,-17.892 15.402,-17.831 15.857,-17.709 16.292,-17.529 16.7,-17.293 17.074,-17.007 17.407,-16.674 17.693,-16.3 17.929,-15.892 18.109,-15.457 18.231,-15.002 18.292,-14.535 18.3,-14.3 18.3,-0.25 19.8,-0.25 19.8,-14.3 19.8,-14.634 19.713,-15.297 19.54,-15.943 19.284,-16.561 18.95,-17.139 18.543,-17.67 18.07,-18.143 17.539,-18.55 16.961,-18.884 16.343,-19.14 15.697,-19.313 15.034,-19.4 14.7,-19.4
  region: -19.8,-0.75 -19.8,12.44 -19.8,12.691 -19.751,13.189 -19.653,13.681 -19.508,14.16 -19.316,14.623 -19.08,15.065 -18.801,15.482 -18.483,15.869 -18.306,16.046 -16.45,17.91 -16.273,18.087 -15.885,18.405 -15.467,18.683 -15.025,18.918 -14.561,19.11 -14.082,19.255 -13.59,19.352 -13.091,19.4 -12.84,19.4 14.7,19.4 15.034,19.4 15.697,19.313 16.343,19.14 16.961,18.884 17.539,18.55 18.07,18.143 18.543,17.67 18.95,17.139 19.284,16.561 19.54,15.943 19.713,15.297 19.8,14.634 19.8,14.3 19.8,-0.5 18.3,-0.5 18.3,14.3 18.292,14.535 18.231,15.002 18.109,15.457 17.929,15.892 17.693,16.3 17.407,16.674 17.074,17.007 16.7,17.293 16.292,17.529 15.857,17.709 15.402,17.831 14.935,17.892 14.7,17.9 -12.84,17.9 -13.017,17.896 -13.368,17.861 -13.715,17.792 -14.053,17.69 -14.379,17.554 -14.691,17.388 -14.985,17.192 -15.258,16.967 -15.386,16.846 -17.246,14.986 -17.367,14.858 -17.592,14.585 -17.788,14.291 -17.954,13.979 -18.09,13.653 -18.192,13.315 -18.261,12.968 -18.296,12.617 -18.3,12.44 -18.3,-0.75
Top Paste:
  region: -19.8,0.25 -19.8,12.44 -19.8,12.691 -19.751,13.189 -19.653,13.681 -19.508,14.16 -19.316,14.623 -19.08,15.065 -18.801,15.482 -18.483,15.869 -18.306,16.046 -16.45,17.91 -16.273,18.087 -15.885,18.405 -15.467,18.683 -15.025,18.918 -14.561,19.11 -14.082,19.255 -13.59,19.352 -13.091,19.4 -12.84,19.4 14.7,19.4 15.034,19.4 15.697,19.313 16.343,19.14 16.961,18.884 17.539,18.55 18.07,18.143 18.543,17.67 18.95,17.139 19.284,16.561 19.54,15.943 19.713,15.297 19.8,14.634 19.8,14.3 19.8,0.25 18.3,0.25 18.3,14.3 18.292,14.535 18.231,15.002 18.109,15.457 17.929,15.892 17.693,16.3 17.407,16.674 17.074,17.007 16.7,17.293 16.292,17.529 15.857,17.709 15.402,17.831 14.935,17.892 14.7,17.9 -12.84,17.9 -13.017,17.896 -13.368,17.861 -13.715,17.792 -14.053,17.69 -14.379,17.554 -14.691,17.388 -14.985,17.192 -15.258,16.967 -15.386,16.846 -17.246,14.986 -17.367,14.858 -17.592,14.585 -17.788,14.291 -17.954,13.979 -18.09,13.653 -18.192,13.315 -18.261,12.968 -18.296,12.617 -18.3,12.44 -18.3,0.25
  region: -14.7,-19.4 -15.034,-19.4 -15.697,-19.313 -16.343,-19.14 -16.961,-18.884 -17.539,-18.55 -18.07,-18.143 -18.543,-17.67 -18.95,-17.139 -19.284,-16.561 -19.54,-15.943 -19.713,-15.297 -19.8,-14.634 -19.8,-14.3 -19.8,-0.25 -18.3,-0.25 -18.3,-14.3 -18.292,-14.535 -18.231,-15.002 -18.109,-15.457 -17.929,-15.892 -17.693,-16.3 -17.407,-16.674 -17.074,-17.007 -16.7,-17.293 -16.292,-17.529 -15.857,-17.709 -15.402,-17.831 -14.935,-17.892 -14.7,-17.9 14.7,-17.9 14.935,-17.892 15.402,-17.831 15.857,-17.709 16.292,-17.529 16.7,-17.293 17.074,-17.007 17.407,-16.674 17.693,-16.3 17.929,-15.892 18.109,-15.457 18.231,-15.002 18.292,-14.535 18.3,-14.3 18.3,-0.25 19.8,-0.25 19.8,-14.3 19.8,-14.634 19.713,-15.297 19.54,-15.943 19.284,-16.561 18.95,-17.139 18.543,-17.67 18.07,-18.143 17.539,-18.55 16.961,-18.884 16.343,-19.14 15.697,-19.313 15.034,-19.4 14.7,-19.4
Assembly Notes:
  text "recommended tin paste thickness=0.5mm / customer to define the final stencil gap" at -5.7,-21.1 h0.4
Top Component Outline:
  lines w0.1: -16.022,17.482 cw(c-12.84,14.3) -12.84,18.8 14.7,18.8 cw(c14.7,14.3) 19.2,14.3 19.2,-14.3 cw(c14.7,-14.3) 14.7,-18.8 -14.7,-18.8 cw(c-14.7,-14.3) -19.2,-14.3 -19.2,12.44 cw(c-14.7,12.44) -17.882,15.622 -16.015,17.489
Top 3D Body:
  lines w0.1: -16.022,17.482 cw(c-12.84,14.3) -12.84,18.8 14.7,18.8 cw(c14.7,14.3) 19.2,14.3 19.2,-14.3 cw(c14.7,-14.3) 14.7,-18.8 -14.7,-18.8 cw(c-14.7,-14.3) -19.2,-14.3 -19.2,12.44 cw(c-14.7,12.44) -17.882,15.622 -16.015,17.489
Top Courtyard:
  lines w0.05: -20,-19.6 20,-19.6 20,19.6 -20,19.6 -20,-19.6
Top Component Center:
  lines w0.05: -0.5,0 0.5,0 ; 0,-0.5 0,0.5
Top Designator (Mech19):
  text ".Designator" at -7.498,-0.5 h1.5
3D body "3670384.stp": height 11, standoff -1, extent -19.2,-18.8 19.2,18.8

## 3670400 [mm] "Shielding Cabinet, SMT Frame Seamless, 40x18.3x4mm"
height 4
pads (6):
  rect 1x16 smd paste-2539.97 mask-2222: 1(-19.85,0) 1(19.85,0)
  oval 2.4x1.5 hole 0.8 slot 1.6 at 0 deg: 1(-11.35,9) 1(11.35,-9)
  rect 20x1 smd paste-2539.97 mask-2222: 1(0,-9) 1(0,9)
Top Layer:
  region: -20.6,-0.25 -20.6,-7.55 -20.6,-7.767 -20.515,-8.192 -20.35,-8.592 -20.109,-8.952 -19.802,-9.259 -19.442,-9.5 -19.042,-9.665 -18.617,-9.75 -18.4,-9.75 18.4,-9.75 18.617,-9.75 19.042,-9.665 19.442,-9.5 19.802,-9.259 20.109,-8.952 20.35,-8.592 20.515,-8.192 20.6,-7.767 20.6,-7.55 20.6,-0.25 19.1,-0.25 19.1,-7.55 19.097,-7.619 19.07,-7.753 19.017,-7.88 18.941,-7.994 18.844,-8.091 18.73,-8.167 18.603,-8.22 18.469,-8.247 18.4,-8.25 -18.4,-8.25 -18.469,-8.247 -18.603,-8.22 -18.73,-8.167 -18.844,-8.091 -18.941,-7.994 -19.017,-7.88 -19.07,-7.753 -19.097,-7.619 -19.1,-7.55 -19.1,-0.25
  region: -20.6,-1 -20.6,7.55 -20.6,7.767 -20.515,8.192 -20.35,8.592 -20.109,8.952 -19.802,9.259 -19.442,9.5 -19.042,9.665 -18.617,9.75 -18.4,9.75 18.4,9.75 18.617,9.75 19.042,9.665 19.442,9.5 19.802,9.259 20.109,8.952 20.35,8.592 20.515,8.192 20.6,7.767 20.6,7.55 20.6,-1 19.1,-1 19.1,7.55 19.097,7.619 19.07,7.753 19.017,7.88 18.941,7.994 18.844,8.091 18.73,8.167 18.603,8.22 18.469,8.247 18.4,8.25 -18.4,8.25 -18.469,8.247 -18.603,8.22 -18.73,8.167 -18.844,8.091 -18.941,7.994 -19.017,7.88 -19.07,7.753 -19.097,7.619 -19.1,7.55 -19.1,-1
Top Paste:
  region: -20.6,0.25 -20.6,7.55 -20.6,7.767 -20.515,8.192 -20.35,8.592 -20.109,8.952 -19.802,9.259 -19.442,9.5 -19.042,9.665 -18.617,9.75 -18.4,9.75 18.4,9.75 18.617,9.75 19.042,9.665 19.442,9.5 19.802,9.259 20.109,8.952 20.35,8.592 20.515,8.192 20.6,7.767 20.6,7.55 20.6,0.25 19.1,0.25 19.1,7.55 19.097,7.619 19.07,7.753 19.017,7.88 18.941,7.994 18.844,8.091 18.73,8.167 18.603,8.22 18.469,8.247 18.4,8.25 -18.4,8.25 -18.469,8.247 -18.603,8.22 -18.73,8.167 -18.844,8.091 -18.941,7.994 -19.017,7.88 -19.07,7.753 -19.097,7.619 -19.1,7.55 -19.1,0.25
  region: -20.6,-0.25 -20.6,-7.55 -20.6,-7.767 -20.515,-8.192 -20.35,-8.592 -20.109,-8.952 -19.802,-9.259 -19.442,-9.5 -19.042,-9.665 -18.617,-9.75 -18.4,-9.75 18.4,-9.75 18.617,-9.75 19.042,-9.665 19.442,-9.5 19.802,-9.259 20.109,-8.952 20.35,-8.592 20.515,-8.192 20.6,-7.767 20.6,-7.55 20.6,-0.25 19.1,-0.25 19.1,-7.55 19.097,-7.619 19.07,-7.753 19.017,-7.88 18.941,-7.994 18.844,-8.091 18.73,-8.167 18.603,-8.22 18.469,-8.247 18.4,-8.25 -18.4,-8.25 -18.469,-8.247 -18.603,-8.22 -18.73,-8.167 -18.844,-8.091 -18.941,-7.994 -19.017,-7.88 -19.07,-7.753 -19.097,-7.619 -19.1,-7.55 -19.1,-0.25
Assembly Notes:
  text "recommended tin paste thickness=0.5mm / customer to define the final stencil gap" at -5.95,-11.4 h0.4
Top Component Outline:
  lines w0.1: -20,-7.65 ccw(c-18.5,-7.65) -18.5,-9.15 18.5,-9.15 ccw(c18.5,-7.65) 20,-7.65 20,7.65 ccw(c18.5,7.65) 18.5,9.15 -18.5,9.15 ccw(c-18.5,7.65) -20,7.65 -20,-7.65
Top 3D Body:
  lines w0.1: -20,-7.65 ccw(c-18.5,-7.65) -18.5,-9.15 18.5,-9.15 ccw(c18.5,-7.65) 20,-7.65 20,7.65 ccw(c18.5,7.65) 18.5,9.15 -18.5,9.15 ccw(c-18.5,7.65) -20,7.65 -20,-7.65
Top Courtyard:
  lines w0.05: -20.8,-9.95 20.8,-9.95 20.8,9.95 -20.8,9.95 -20.8,-9.95
Top Component Center:
  lines w0.05: -0.5,0 0.5,0 ; 0,-0.5 0,0.5
Top Designator (Mech19):
  text ".Designator" at -7.498,-0.5 h1.5
3D body "3670400.stp": height 4, standoff -1, extent -20,-9.15 20,9.15

## 3670402 [mm] "Shielding Cabinet, SMT Frame Seamless, 40.2x34.6x5.3mm"
height 5.3
pads (4):
  rect 1x20 smd paste-2539.97 mask-2222: 1(-19.95,0) 1(19.95,0)
  rect 20x1 smd paste-2539.97 mask-2222: 1(0,-17.15) 1(0,17.15)
Top Layer:
  region: -20.7,-1 -20.7,14.8 -20.7,15.003 -20.647,15.406 -20.542,15.799 -20.386,16.174 -20.183,16.526 -19.936,16.848 -19.648,17.136 -19.326,17.383 -18.974,17.586 -18.599,17.742 -18.206,17.847 -17.803,17.9 -17.6,17.9 17.6,17.9 17.803,17.9 18.206,17.847 18.599,17.742 18.974,17.586 19.326,17.383 19.648,17.136 19.936,16.848 20.183,16.526 20.386,16.174 20.542,15.799 20.647,15.406 20.7,15.003 20.7,14.8 20.7,-1 19.2,-1 19.2,14.8 19.192,14.957 19.131,15.264 19.011,15.554 18.837,15.815 18.615,16.037 18.354,16.211 18.064,16.331 17.757,16.392 17.6,16.4 -17.6,16.4 -17.757,16.392 -18.064,16.331 -18.354,16.211 -18.615,16.037 -18.837,15.815 -19.011,15.554 -19.131,15.264 -19.192,14.957 -19.2,14.8 -19.2,-1
  region: -20.7,-0.25 -20.7,-14.8 -20.7,-15.003 -20.647,-15.406 -20.542,-15.799 -20.386,-16.174 -20.183,-16.526 -19.936,-16.848 -19.648,-17.136 -19.326,-17.383 -18.974,-17.586 -18.599,-17.742 -18.206,-17.847 -17.803,-17.9 -17.6,-17.9 17.6,-17.9 17.803,-17.9 18.206,-17.847 18.599,-17.742 18.974,-17.586 19.326,-17.383 19.648,-17.136 19.936,-16.848 20.183,-16.526 20.386,-16.174 20.542,-15.799 20.647,-15.406 20.7,-15.003 20.7,-14.8 20.7,-0.25 19.2,-0.25 19.2,-14.8 19.192,-14.957 19.131,-15.264 19.011,-15.554 18.837,-15.815 18.615,-16.037 18.354,-16.211 18.064,-16.331 17.757,-16.392 17.6,-16.4 -17.6,-16.4 -17.757,-16.392 -18.064,-16.331 -18.354,-16.211 -18.615,-16.037 -18.837,-15.815 -19.011,-15.554 -19.131,-15.264 -19.192,-14.957 -19.2,-14.8 -19.2,-0.25
Top Paste:
  region: -20.7,-0.25 -20.7,-14.8 -20.7,-15.003 -20.647,-15.406 -20.542,-15.799 -20.386,-16.174 -20.183,-16.526 -19.936,-16.848 -19.648,-17.136 -19.326,-17.383 -18.974,-17.586 -18.599,-17.742 -18.206,-17.847 -17.803,-17.9 -17.6,-17.9 17.6,-17.9 17.803,-17.9 18.206,-17.847 18.599,-17.742 18.974,-17.586 19.326,-17.383 19.648,-17.136 19.936,-16.848 20.183,-16.526 20.386,-16.174 20.542,-15.799 20.647,-15.406 20.7,-15.003 20.7,-14.8 20.7,-0.25 19.2,-0.25 19.2,-14.8 19.192,-14.957 19.131,-15.264 19.011,-15.554 18.837,-15.815 18.615,-16.037 18.354,-16.211 18.064,-16.331 17.757,-16.392 17.6,-16.4 -17.6,-16.4 -17.757,-16.392 -18.064,-16.331 -18.354,-16.211 -18.615,-16.037 -18.837,-15.815 -19.011,-15.554 -19.131,-15.264 -19.192,-14.957 -19.2,-14.8 -19.2,-0.25
  region: -20.7,0.25 -20.7,14.8 -20.7,15.003 -20.647,15.406 -20.542,15.799 -20.386,16.174 -20.183,16.526 -19.936,16.848 -19.648,17.136 -19.326,17.383 -18.974,17.586 -18.599,17.742 -18.206,17.847 -17.803,17.9 -17.6,17.9 17.6,17.9 17.803,17.9 18.206,17.847 18.599,17.742 18.974,17.586 19.326,17.383 19.648,17.136 19.936,16.848 20.183,16.526 20.386,16.174 20.542,15.799 20.647,15.406 20.7,15.003 20.7,14.8 20.7,0.25 19.2,0.25 19.2,14.8 19.192,14.957 19.131,15.264 19.011,15.554 18.837,15.815 18.615,16.037 18.354,16.211 18.064,16.331 17.757,16.392 17.6,16.4 -17.6,16.4 -17.757,16.392 -18.064,16.331 -18.354,16.211 -18.615,16.037 -18.837,15.815 -19.011,15.554 -19.131,15.264 -19.192,14.957 -19.2,14.8 -19.2,0.25
Assembly Notes:
  text "recommended tin paste thickness=0.5mm / customer to define the final stencil gap" at -5.65,-19.5 h0.4
Top Component Outline:
  lines w0.1: -20.1,-14.8 ccw(c-17.6,-14.8) -17.6,-17.3 17.6,-17.3 ccw(c17.6,-14.8) 20.1,-14.8 20.1,14.8 ccw(c17.6,14.8) 17.6,17.3 -17.6,17.3 ccw(c-17.6,14.8) -20.1,14.8 -20.1,-14.8
Top 3D Body:
  lines w0.1: -20.1,-14.8 ccw(c-17.6,-14.8) -17.6,-17.3 17.6,-17.3 ccw(c17.6,-14.8) 20.1,-14.8 20.1,14.8 ccw(c17.6,14.8) 17.6,17.3 -17.6,17.3 ccw(c-17.6,14.8) -20.1,14.8 -20.1,-14.8
Top Courtyard:
  lines w0.05: -20.9,-18.1 20.9,-18.1 20.9,18.1 -20.9,18.1 -20.9,-18.1
Top Component Center:
  lines w0.05: -0.5,0 0.5,0 ; 0,-0.5 0,0.5
Top Designator (Mech19):
  text ".Designator" at -7.498,-0.5 h1.5
3D body "3670402.stp": height 5.3, standoff 0, extent -20.1,-17.3 20.1,17.3

## 3670405 [mm] "Shielding Cabinet, SMT Frame Seamless, 40.5x18.9x2.8mm"
height 2.8
pads (4):
  rect 1x15 smd paste-2539.97 mask-2222: 1(-20.1,0) 1(20.1,0)
  rect 20x1 smd paste-2539.97 mask-2222: 1(0,-9.3) 1(0,9.3)
Top Layer:
  region: -20.85,-0.25 -20.85,-7.65 -20.85,-7.886 -20.758,-8.35 -20.577,-8.787 -20.314,-9.18 -19.98,-9.514 -19.587,-9.777 -19.15,-9.958 -18.686,-10.05 -18.45,-10.05 18.45,-10.05 18.686,-10.05 19.15,-9.958 19.587,-9.777 19.98,-9.514 20.314,-9.18 20.577,-8.787 20.758,-8.35 20.85,-7.886 20.85,-7.65 20.85,-0.25 19.35,-0.25 19.35,-7.65 19.346,-7.738 19.311,-7.911 19.244,-8.074 19.146,-8.221 19.021,-8.346 18.874,-8.444 18.711,-8.511 18.538,-8.546 18.45,-8.55 -18.45,-8.55 -18.538,-8.546 -18.711,-8.511 -18.874,-8.444 -19.021,-8.346 -19.146,-8.221 -19.244,-8.074 -19.311,-7.911 -19.346,-7.738 -19.35,-7.65 -19.35,-0.25
  region: -20.85,-1 -20.85,7.65 -20.85,7.886 -20.758,8.35 -20.577,8.787 -20.314,9.18 -19.98,9.514 -19.587,9.777 -19.15,9.958 -18.686,10.05 -18.45,10.05 18.45,10.05 18.686,10.05 19.15,9.958 19.587,9.777 19.98,9.514 20.314,9.18 20.577,8.787 20.758,8.35 20.85,7.886 20.85,7.65 20.85,-1 19.35,-1 19.35,7.65 19.346,7.738 19.311,7.911 19.244,8.074 19.146,8.221 19.021,8.346 18.874,8.444 18.711,8.511 18.538,8.546 18.45,8.55 -18.45,8.55 -18.538,8.546 -18.711,8.511 -18.874,8.444 -19.021,8.346 -19.146,8.221 -19.244,8.074 -19.311,7.911 -19.346,7.738 -19.35,7.65 -19.35,-1
Top Paste:
  region: -20.85,0.25 -20.85,7.65 -20.85,7.886 -20.758,8.35 -20.577,8.787 -20.314,9.18 -19.98,9.514 -19.587,9.777 -19.15,9.958 -18.686,10.05 -18.45,10.05 18.45,10.05 18.686,10.05 19.15,9.958 19.587,9.777 19.98,9.514 20.314,9.18 20.577,8.787 20.758,8.35 20.85,7.886 20.85,7.65 20.85,0.25 19.35,0.25 19.35,7.65 19.346,7.738 19.311,7.911 19.244,8.074 19.146,8.221 19.021,8.346 18.874,8.444 18.711,8.511 18.538,8.546 18.45,8.55 -18.45,8.55 -18.538,8.546 -18.711,8.511 -18.874,8.444 -19.021,8.346 -19.146,8.221 -19.244,8.074 -19.311,7.911 -19.346,7.738 -19.35,7.65 -19.35,0.25
  region: -20.85,-0.25 -20.85,-7.65 -20.85,-7.886 -20.758,-8.35 -20.577,-8.787 -20.314,-9.18 -19.98,-9.514 -19.587,-9.777 -19.15,-9.958 -18.686,-10.05 -18.45,-10.05 18.45,-10.05 18.686,-10.05 19.15,-9.958 19.587,-9.777 19.98,-9.514 20.314,-9.18 20.577,-8.787 20.758,-8.35 20.85,-7.886 20.85,-7.65 20.85,-0.25 19.35,-0.25 19.35,-7.65 19.346,-7.738 19.311,-7.911 19.244,-8.074 19.146,-8.221 19.021,-8.346 18.874,-8.444 18.711,-8.511 18.538,-8.546 18.45,-8.55 -18.45,-8.55 -18.538,-8.546 -18.711,-8.511 -18.874,-8.444 -19.021,-8.346 -19.146,-8.221 -19.244,-8.074 -19.311,-7.911 -19.346,-7.738 -19.35,-7.65 -19.35,-0.25
Assembly Notes:
  text "recommended tin paste thickness=0.5mm / customer to define the final stencil gap" at -5.75,-11.65 h0.4
Top Component Outline:
  lines w0.1: -20.25,-7.7 ccw(c-18.5,-7.7) -18.5,-9.45 0,-9.45 18.5,-9.45 ccw(c18.5,-7.7) 20.25,-7.7 20.25,7.7 ccw(c18.5,7.7) 18.5,9.45 0,9.45 -18.5,9.45 ccw(c-18.5,7.7) -20.25,7.7 -20.25,-7.7
Top 3D Body:
  lines w0.1: -20.25,-7.7 ccw(c-18.5,-7.7) -18.5,-9.45 0,-9.45 18.5,-9.45 ccw(c18.5,-7.7) 20.25,-7.7 20.25,7.7 ccw(c18.5,7.7) 18.5,9.45 0,9.45 -18.5,9.45 ccw(c-18.5,7.7) -20.25,7.7 -20.25,-7.7
Top Courtyard:
  lines w0.05: -21.05,-10.25 21.05,-10.25 21.05,10.25 -21.05,10.25 -21.05,-10.25
Top Component Center:
  lines w0.05: -0.5,0 0.5,0 ; 0,-0.5 0,0.5
Top Designator (Mech19):
  text ".Designator" at -7.498,-0.5 h1.5
3D body "3670405.stp": height 2.8, standoff 0, extent -20.25,-9.45 20.25,9.45